# Altium integrated library NiceRF_LR2021_DevKit.IntLib: 12 symbols
Pins are listed as number, name and electrical type; pins without a type are passive.

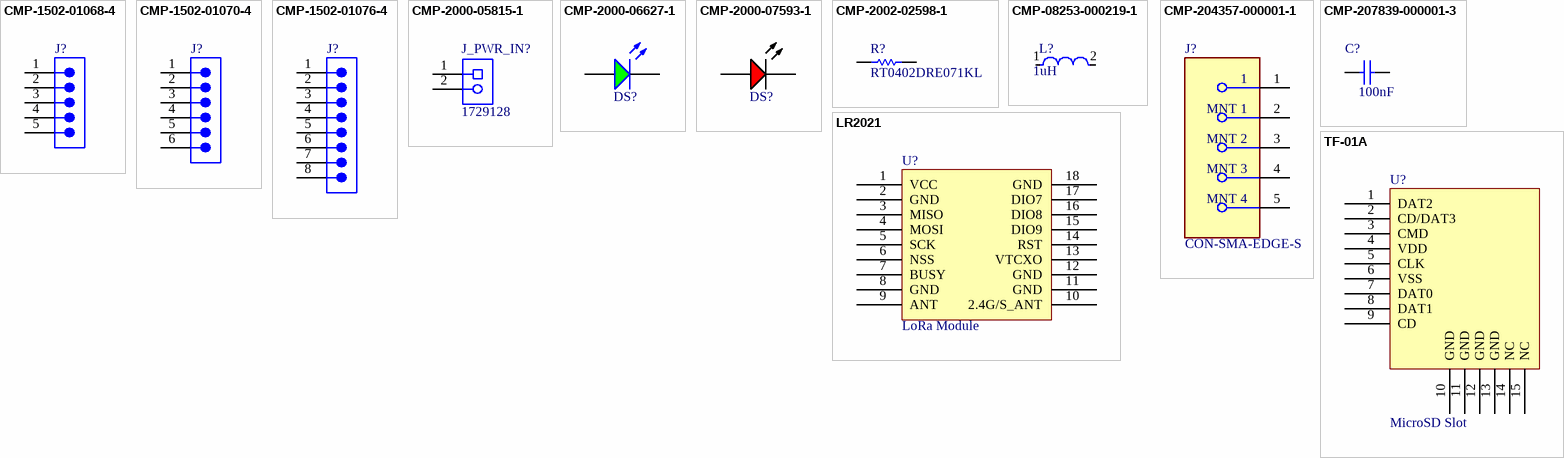
[diagram p0: symbols CMP-1502-01068-4 to TF-01A]

## CMP-1502-01068-4
designator J?, comment 61300511121  (value not drawn)
THT Vertical Pin Header WR-PHD, Pitch 2.54 mm, Single Row, 5 pins; Number of Contacts: 5; Connector Type: Male Pin; Operating Supply Voltage: 250V; Contact Resistance: 20mΩ; Gender: Male; Pitch: 2.54mm; Current Rating: 3A; Min Operating Temperature: -40°C; Contact Material: Gold; Color: Black; RoHS: Compliant; Number of Rows: 1; Lead Free: Lead Free; Height: 8.89mm; Contact Plating: Gold; Number of Pins: 5; Orientation: Vertical; Voltage Rating: 250V; Packaging: Bulk; Number of Positions: 5; Max Operating Temperature: 105°C; Termination: Solder; Lead Pitch: 2.54mm; Contact Mating Length: 5.9944mm; Mount: Through Hole
footprint 61300511121 (THT Vertical Pin Header WR-PHD, Pitch 2.54 mm, Single Row, 5 pins)
pins: 1, 2, 3, 4, 5

## CMP-1502-01070-4
designator J?, comment 61300611121  (value not drawn)
THT Vertical Pin Header WR-PHD, Pitch 2.54 mm, Single Row, 6 pins; Pitch: 2.54mm; Operating Supply Voltage: 250V; Connector Type: Male Pin; Gender: Male; Number of Positions: 6; Contact Resistance: 20mΩ; Current Rating: 3A; Termination: Through Hole; Color: Black; Number of Pins: 6; Lead Pitch: 2.54mm; Height: 8.89mm; RoHS: Compliant; Lead Free: Lead Free; Contact Mating Length: 5.9944mm; Contact Plating: Gold; Contact Gender: Male; Packaging: Bulk; Orientation: Vertical; Mount: Through Hole; Voltage Rating: 250V; Number of Rows: 1; Max Operating Temperature: 105°C; Min Operating Temperature: -40°C; Housing Material: PBT; Contact Material: Gold; Number of Contacts: 6
footprint 61300611121 (THT Vertical Pin Header WR-PHD, Pitch 2.54 mm, Single Row, 6 pins)
pins: 1, 2, 3, 4, 5, 6

## CMP-1502-01076-4
designator J?, comment 61300811121  (value not drawn)
THT Vertical Pin Header WR-PHD, Pitch 2.54 mm, Single Row, 8 pins; Pitch: 2.54mm; Voltage Rating: 250V; Connector Type: Male Pin; Current Rating: 3A; Contact Resistance: 20mΩ; Number of Positions: 8; Gender: Male; Contact Mating Length: 5.9944mm; Orientation: Vertical; Contact Plating: Gold; Mount: Through Hole; Min Operating Temperature: -40°C; Packaging: Bulk; Height: 8.54mm; Number of Pins: 8; Contact Material: Gold; Operating Supply Voltage: 250V; Termination: Solder; RoHS: Compliant; Color: Black; Number of Contacts: 8; Lead Pitch: 2.54mm; Number of Rows: 1; Max Operating Temperature: 105°C
footprint 61300811121 (THT Vertical Pin Header WR-PHD, Pitch 2.54 mm, Single Row, 8 pins)
pins: 1, 2, 3, 4, 5, 6, 7, 8

## CMP-2000-05815-1
designator J_PWR_IN?, comment 1729128
PCB Terminal Block, 13.5 A, 400 V, 2-Pin THD, RoHS, Bulk; Manufacturer: Phoenix Contact; Package Version: 03/2015; No. of Rows: 1; Pitch: 5.08mm; No. of Positions: 2; Voltage Rating: 400V; Current Rating: 13500mA; Manufacturer URL: http://www.phoenixcontact.com/; Datasheet URL: https://datasheet.ciiva.com/16046/1729128-16046181.pdf; RoHS: TRUE; Package URL: https://www.phoenixcontact.com/online/portal/pi/pxc/product_detail_page/!ut/p/b1/3VdJjqNKFDxLH8AFycySyWY2ozFsEPOMMQaDOX1XedGL_1Vdm5YXJleknhSKeBkvI6EA8ncAo3AYoDhBQGco6KN7VURTdemj9us_IEKEZo_YHiPAEWEFmDGOHMORkqKYCORBZxgL7ZoaZYcbFFUZ3fqxSY6GOuxydWUuHqz1ynmMFygu583Bob0Ewr6Sd_l-5m-kAueHiB0jpRwZwe58wwtkpxtMYd_LmGcDRU02dRNEyWt6Y2ti5pSyJ_reIkzIulrqApdnbT11V5jnCKbYNCvhEM1MCpPByat_X379-iThf08CI5GfOPqfBeS3BRoBOdD55AKVv0iLwCMq-2BrzXWSGRH7pUGD9uwXQjiph3xL0DKQwdGa0JImiIOmBNOestqgwTHSSs2oOep-78apyXQBvNi8ZLaFjvjWvcaUEBu0MC6Wbe-d6mB0FAebo2lUWinqYaZs5DAYzV0RP9yitUjnGJ0iI9xhZkT42OCQNUJJhkgWINNQLP2JFP6OpMg3JCVg70jqHT0lvKOnhHf0lPuOnnLf0VPuWx6_dxwUIvwk5WMkT0kLL1mh61l2yZVSzG3pYV_bqo-mj6uMKwKwdnnW8Jh5RTOJzMOA5c-eJDaZQw4mTMPH02PvS_ZAqNVjVTo2WyYLkwH_KU1mmmG5kjRhDqPXLwwVHvVOjCM60-fpXvTDfMGW1PVFVS1r4e4yVDk4ZdNbkUHvqPqQSeian4UD39fNKmachqdJ1NJbyk8rXT9mXTvPk3oE5meulKGgiruPJek-4I9hTT6G8ZLOyRSm2RRVbThERQad5OS28hdt4YW4vG0stgYYzsWsK4_7y6DZMjJSCqri1kyiZR5vD7pwIrNR7QwPHTcLTI5qT7eRlpHrdGiupYlqQDJ7zy_CND8fWWBoLRXxk1RVcXiBQwbTD4Xi7KL-FuO94t9xaqweXzH; PartNumber: 1729128; Package Description: 2-Pin Through Hole Device, Body 8.1 x 10.16 mm, Pitch 5.08 mm; Datasheet Version: 12/2013; Mounting Technology: ThroughHole; Orientation: Horizontal; Package Reference: 1729128-2; Packing: Bulk
footprint PHOE-1729128-2_V (Receptacle, 2-Leads, Body 8.1x10.16mm, Pitch 5.08mm)
pins: 1, 2

## CMP-2000-06627-1
designator DS?, comment LTST-S220GKT  (value not drawn)
LED Green, 100 mW, 30 mA, -55 to 85 degC, 2-Pin SMD, RoHS, Tape and Reel; Manufacturer: Lite-On; Product Height (mm): 1mm; Number of  Elements: 1; Viewing Angle: 130deg; Test Current (It): 20mA; Reverse Voltage: 5V; Emitting Color: YellowGreen; High Brightness: No; Type: Uni-Color; Forward Current: 30mA; Peak Wavelength: 565nm; Shape Type: Rectangular; Main Category: ChipLED; Luminous Intensity: 20mcd; Power Dissipation: 100W; DELETED: Compliant; Product Depth (mm): 0.6mm; Forward Voltage: 2.6V; Dominant Wave Length: 569nm; Product Length (mm): 2.1mm; Package Reference: S220GKT; Operating Temperature Classification: Industrial; Operating Temp Range: -55Cto85C; Package Type: SMD; Pin Count: 2; Mounting: SurfaceMount; Mounting Technology: SurfaceMount; Datasheet URL: http://media.digikey.com/pdf/Data%20Sheets/Lite-On%20PDFs/LTST-S220GKT.pdf; Datasheet Version: 03/2000; Lum Intensity: 20mcd; Rad Hardened: No; Manufacturer URL: http://www.us.liteon.com/; Package Description: 2-Pin Surface Mount Device, Body 2.1 x 0.6 mm; Packaging: TapeandReel; Lens Dimensions: 1.7x0.6x0.5mm
footprint LTST-S220GKT_V (SMD, 2-Leads, Body 2.1x0.6mm)
pins: 1 A, 2 K

## CMP-2000-07593-1
designator DS?, comment LTST-C170KRKT  (value not drawn)
LED Red, 75 mW, 54 mcd, -55 to 85 degC, 2-Pin SMD, RoHS, Tape and Reel; Manufacturer: Lite-On; Lens Transparency: Clear; Number of Elements: 1; Power Rating: 75mW; Luminous Intensity: 54mcd; Viewing Angle: 130degrees; Forward Current: 30mA; Wavelength: 639nm; Lens Style: Rectangular; Case\/Package: 0805; Test Current: 20mA; Dominant Wavelength: 631nm; Forward Voltage: 2V; Lens Colour: Colorless; Min Operating Temperature: -55degC; RoHSCompliant: True; Length: 3.2mm; Width: 1.25mm; Mount: SurfaceMount; Packaging: TapeandReel; Number of LEDs: 1; Radiation Hardening: No; Datasheet URL: http://optoelectronics.liteon.com/upload/download/DS-22-99-0150/LTST-C170KRKT.pdf; Datasheet Version: Rev. D, 11/2014; Case Code (Metric): 2012; Height: 1.1mm; Number of Pins: 2; Package Description: 2-Pin Surface Mount Device, Body 2 x 1.25 mm; Manufacturer URL: http://www.us.liteon.com/; Lead Free: LeadFree; Illumination Colour: Red; Colour: Red; Case Code (Imperial): 0805; Max Operating Temperature: 85degC; Power Dissipation: 75mW; Mounting Technology: SurfaceMount; Package Reference: C170KRKT; Package Quantity: 1; Depth: 1.6mm
footprint LTST-C170KRKT_V (SMD, 2-Leads, Body 2x1.25mm)
pins: 1 A, 2 K

## CMP-2002-02598-1
designator R?, comment RT0402DRE071KL
Manufacturer: Yageo; Part Number: RT0402DRE071KL
footprint RESC1005X35X25ML10T10 (Chip Resistor, 2-Leads, Body 1.00x0.50mm, IPC Low Density)
footprint RESC1005X35X25NL10T10 (Chip Resistor, 2-Leads, Body 1.00x0.50mm, IPC Medium Density)
footprint RESC1005X35X25LL10T10 (Chip Resistor, 2-Leads, Body 1.00x0.50mm, IPC High Density)
pins: 1, 2
1 alternate drawing of the same symbol

## CMP-08253-000219-1
designator L?, comment Inductance: 1uH  (hidden comment: MLZ1005M1R0WT000)
Shielded Multilayer Inductor 1uH ±20% 450mA 455mΩ SMD 0402; Core Material: Ferrite; Saturation Current: 100mA; Self Resonant Frequency: 170MHz; DC Resistance (DCR): 455mR; Test Frequency: 2MHz; Width: 0.02inch; Tolerance: 20%; Package Quantity: 10000; Current Rating: 450mA; Length: 0.039inch; RoHS Compliant: Yes; Max Operating Temperature: 125°C; Height - Seated (Max): 0.022inch; Packaging: Tape and Reel; Case Code (Metric): 1005; Case Code (Imperial): 0402; Min Operating Temperature: -55°C; Case/Package: 0402; Mount: Surface Mount; Shielding: Shielded
footprint FP-MLZ1005-MFG
footprint FP-MLZ1005-IPC_B
footprint FP-MLZ1005-IPC_A
footprint FP-MLZ1005-IPC_C
pins: 1, 2

## CMP-204357-000001-1
designator J?, comment CON-SMA-EDGE-S
CONN SMA JACK STR EDGE MNT; Manufacturer: RF Solutions Ltd.; Impedance: 50Ω; Conn Orientation: Right Angle; Is Female: yes; Number Of Contacts: 1; Frequency: 18GHz; Shielding: true; Category: Conn; ComponentLink2URL: https://www.rfsolutions.co.uk/downloads/1498648656DS-CON-EDGE-SMA-4.pdf; Octopart: https://octopart.com/con-sma-edge-s-rf+solutions-70967450; Package: CONN_JACK; Manufacturer Part Number: CON-SMA-EDGE-S; Height: 6.35mm; Device Class L1: Connectors; Footprint Url: https://forum.upverter.com/uploads/default/original/3X/b/e/be75b907af57498775929d6d9099689c472e0307.pdf; Contact Material: Gold; ComponentLink2Description: Datasheet; Device Class L2: RF / Coaxial Connectors; RoHS: TRUE; Device Class L3: unset; Digikey Description: CONN SMA JACK STR EDGE MNT; Lead Free: Yes; Automotive: No
footprint FP-CON-SMA-EDGE-S-MFG
pins: 1, 2 MNT 1, 3 MNT 2, 4 MNT 3, 5 MNT 4

## CMP-207839-000001-3
designator C?, comment Capacitance: 100nF  (hidden comment: 885012205037)
Cap Ceramic 0.1uF 16V X7R 10% Pad SMD 0402 125C T/R; Insulation Resistance: 5GΩ; Case Code (Imperial): 0402; Case/Package: 0402; REACH SVHC: Unknown; Mount: Surface Mount; Thickness: 558.8µm; Dielectric: X7R; Min Operating Temperature: -55°C; Length: 1mm; Max Operating Temperature: 125°C; Material: Ceramic; Voltage Rating (DC): 16V; RoHS: Compliant; Voltage Rating: 16V; Height: 500µm; Width: 500µm; Case Code (Metric): 1005; Tolerance: 10%
footprint WCAP-CSGP_0402_L1W0.5H0.5
pins: 1, 2

## LR2021
designator U?, comment LoRa Module
LoRa2021: 160mW Multi-Band Wireless Communication Module
footprint LR2021 (LoRa2021: 160mW Multi-Band Wireless Communication Module)
pins: 1 VCC, 2 GND, 3 MISO, 4 MOSI, 5 SCK, 6 NSS, 7 BUSY, 8 GND, 9 ANT, 10 2.4G/S_ANT, 11 GND, 12 GND, 13 VTCXO, 14 RST, 15 DIO9, 16 DIO8, 17 DIO7, 18 GND

## TF-01A
designator U?, comment MicroSD Slot
1.85mm Card Slot MicroSD card (TF card) Self-bouncing SMD SD Card / Memory Card Connector ROHS; Parameter 1: *
footprint TF-01A
pins: 1 DAT2, 2 CD/DAT3, 3 CMD, 4 VDD, 5 CLK, 6 VSS, 7 DAT0, 8 DAT1, 9 CD, 10 GND, 11 GND, 12 GND, 13 GND, 14 NC, 15 NC